# EAGLE library part FT230X (library Ernest_IC)
The FT230X is a simple USB to serial converter IC. The CBUS lines can be used for TX and RX activity LEDs, RS-485 TX data enable, and device sleep control. Datasheet: http://www.ftdichip.com/Support/Documents/DataSheets/ICs/DS_FT230X.pdf
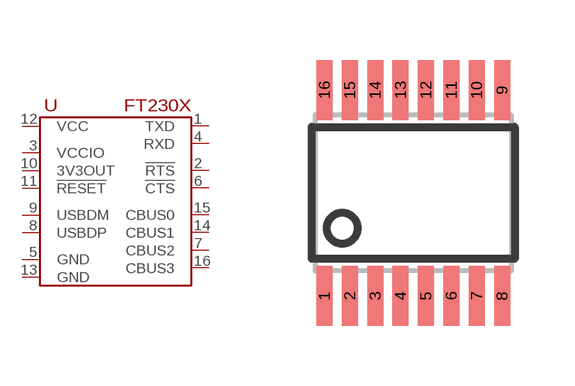
[diagram p0: symbol with the pads of SSOP16; footprint SSOP16]

Designator prefix U

## FT230X1  [SSOP16]
1  TXD  out
2  !RTS  out
3  VCCIO  pwr
4  RXD  in
5  GND  pwr
6  !CTS  in
7  CBUS2
8  USBDP  in
9  USBDM  in
10  3V3OUT  pwr
11  !RESET  in
12  VCC  pwr
13  GND  in
14  CBUS1
15  CBUS0
16  CBUS3

## Footprint SSOP16 (pad centres in mm)
Untested Footprint
smd 0.4 x 1.5: 1 -2.223,-2.578; 2 -1.587,-2.578; 3 -0.953,-2.578; 4 -0.318,-2.578; 5 0.318,-2.578; 6 0.953,-2.578; 7 1.587,-2.578; 8 2.223,-2.578; 9 2.223,2.578; 10 1.587,2.578; 11 0.953,2.578; 12 0.318,2.578; 13 -0.318,2.578; 14 -0.953,2.578; 15 -1.587,2.578; 16 -2.222,2.578